# Altium schematic symbol library Bat42WS.SchLib: 1 symbol
Pins are listed as number, name and electrical type; pins without a type are passive.

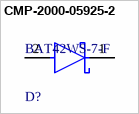
[diagram p0: symbol CMP-2000-05925-2]

## CMP-2000-05925-2
designator D?, comment BAT42WS-7-F
DIODE SCHOTTKY 30V 200MA SOD323; Manufacturer: Diodes Inc.; Max Junction Temp: +125°C; Peak Reverse Current: 0.5uA; Max Surge Forward Current: 4A; Standoff Height: 0.05mm; Capacitance: 10pF; Value: 10pF; Package: SOD323; Max Repetitive Reverse Voltage: 30V; Digikey Description: DIODE SCHOTTKY 30V 200MA SOD323; Forward Current: 200mA; Lead Free: Yes; Device Class L1: Discrete Semiconductors; Height: 1.2mm; Mouser Description: Schottky Diodes & Rectifiers 30V 200mW; Footprint Url: https://www.diodes.com/assets/Package-Files/SOD323.pdf; Automotive: No; Device Class L3: Schottky Diodes; Temperature: -55°C to +125°C; ComponentLink2Description: Datasheet; Temperature Range High: +125°C; Manufacturer Part Number: BAT42WS-7-F; ComponentLink2URL: https://www.diodes.com/assets/Datasheets/ds30100.pdf; Reverse Voltage: 30V; Octopart: https://octopart.com/bat42ws-7-f-diodes+inc.-326107; Temperature Range Low: -55°C; Category: Diode; RoHS: TRUE; Device Class L2: Diodes
footprint FP-SOD323-MFG
footprint FP-SOD323-IPC_A
footprint FP-SOD323-IPC_C
footprint FP-SOD323-IPC_B
pins: 1 C, 2 A